# Altium footprint library Synthiam.PcbLib: 481 footprints (part 17 of 31)
Each footprint in its own frame and in the unit in brackets; x right, y up, seen from the top. Pads: shape width x height; smd on the part's side, far side on the other; paste and mask are expansions set on the pad; w line width, h text height; cw(c..) or ccw(c..) is an arc to the next point about the centre after c.
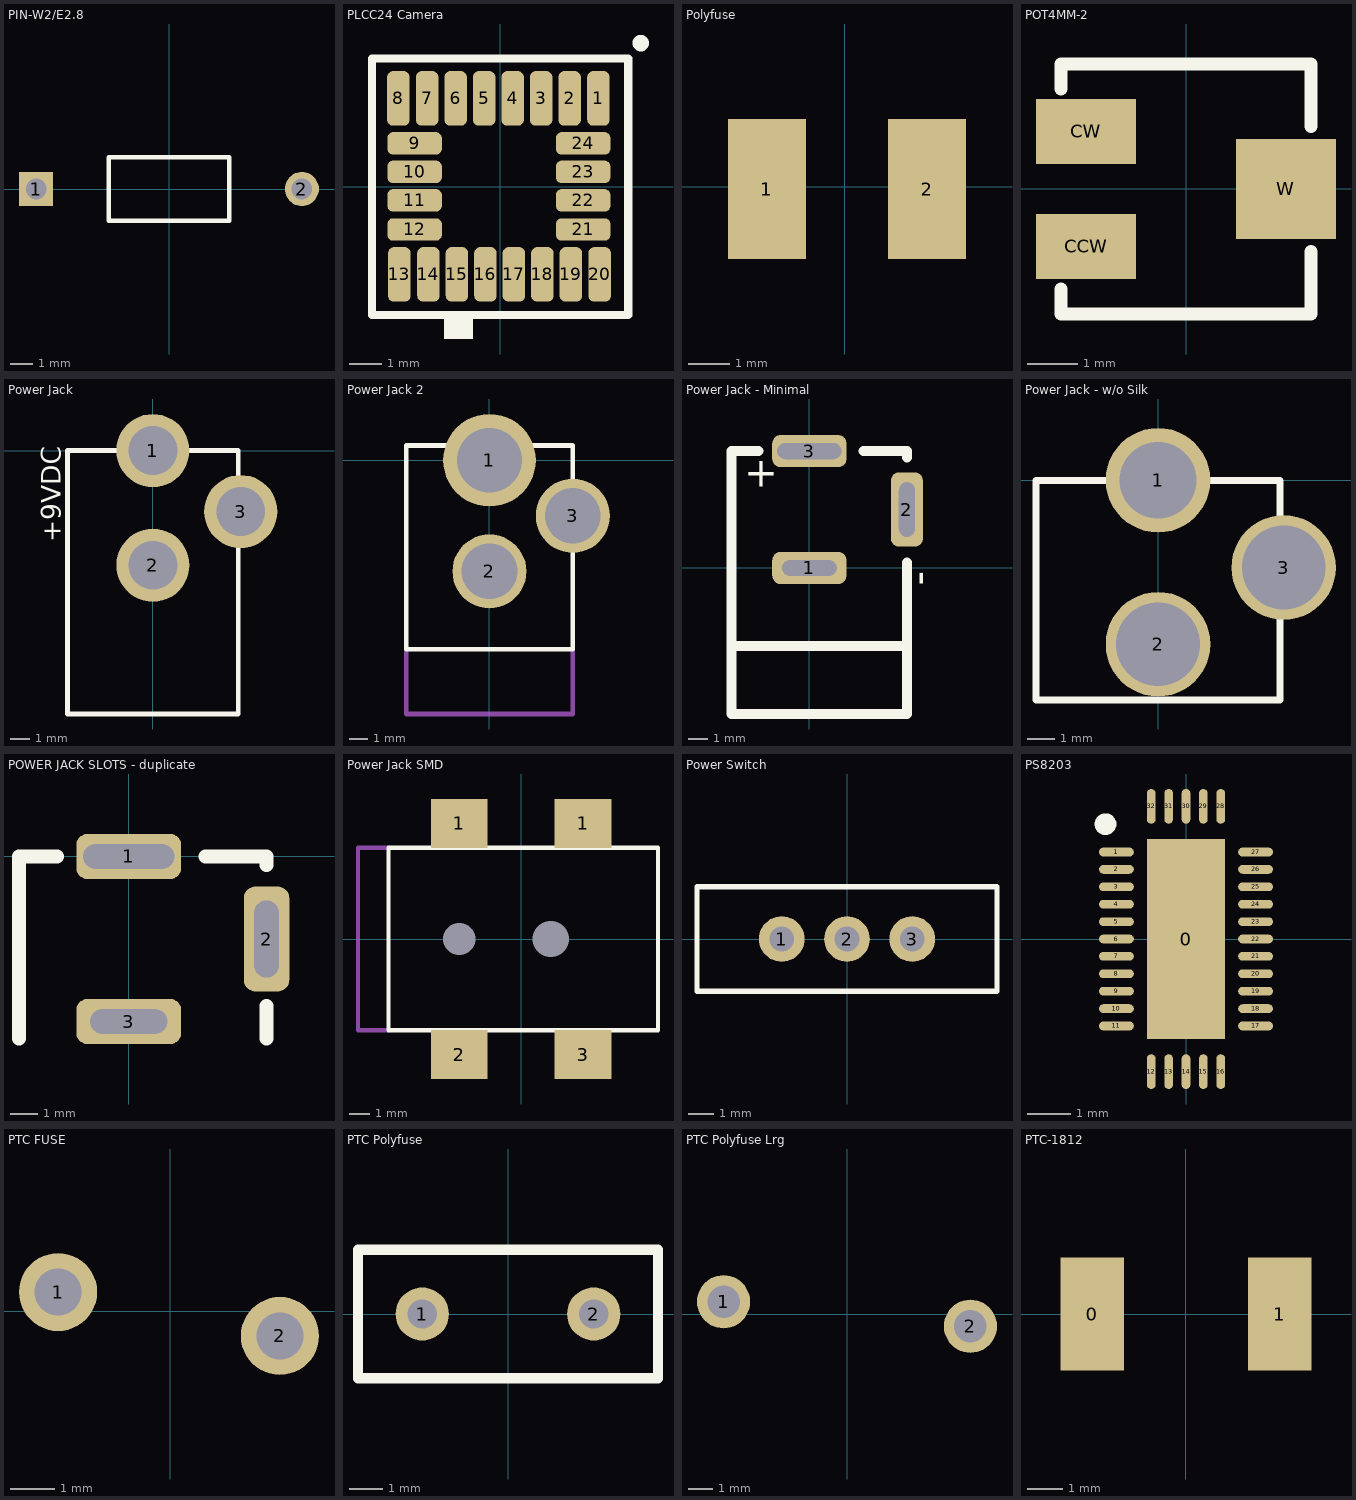
[diagram p16: the footprints below, top view; thin cyan lines are the x and y axes]

## PIN-W2/E2.8 [mm] "Thru-Hole; 2 Leads"
pads (2):
  rect 1.5x1.5 hole 0.9: 1(-5.825,0)
  round 1.5 hole 0.9: 2(5.825,0)
Top Overlay:
  lines w0.2: -2.65,-1.4 2.65,-1.4 2.65,1.4 -2.65,1.4 -2.65,-1.4

## PLCC24 Camera [mm]
pads (24):
  rrect50% 0.7x1.7 smd: 1(3.07,2.756) 2(2.171,2.756) 3(1.282,2.756) 4(0.393,2.756) 5(-0.496,2.756) 6(-1.385,2.756) 7(-2.274,2.756) 8(-3.173,2.756) 13(-3.143,-2.734) 14(-2.234,-2.734) 15(-1.345,-2.734) 16(-0.456,-2.734) 17(0.433,-2.734) 18(1.322,-2.734) 19(2.211,-2.734) 20(3.11,-2.734)
  rrect50% 1.7x0.7 smd: 9(-2.666,1.354) 10(-2.666,0.465) 11(-2.666,-0.424) 12(-2.666,-1.333) 21(2.594,-1.333) 22(2.594,-0.424) 23(2.594,0.465) 24(2.594,1.354)
Top Overlay:
  circle w0.254: c4.39,4.48 r0.13
  rectangle: -1.753,-4.75 -0.838,-3.988
  lines w0.254: -4,-4 -4,4 4,4 4,-4 -4,-4

## Polyfuse [mm] "500mA resetable Poly Fuse 4.65 X 3.26mm"
height 0.65
pads (2):
  rect 1.9x3.4 smd: 1(-1.901,-0.054) 2(1.999,-0.054)

## POT4MM-2 [mm] "Square Trimming Potentiometer"
pads (3):
  rect 2x1.3 smd: CCW(-2,-1.15) CW(-2,1.15)
  rect 2x2 smd: W(2,0)
Top Overlay:
  lines w0.254: -2.5,-2 -2.5,-2.5 2.5,-2.5 2.5,-1.25 ; -2.5,2 -2.5,2.5 2.5,2.5 2.5,1.25

## Power Jack [mil]
pads (3):
  round 150 hole 100: 1(0,0) 2(0,-235) 3(180,-125)
Top Overlay:
  lines w10: -175,-540 -175,0 175,0 175,-540 -175,-540
  text "+9VDC" at -189,-188 h40

## Power Jack 2 [mm]
pads (3):
  round 5 hole 3.5: 1(0,0)
  round 4 hole 3: 2(0,-6) 3(4.5,-3)
Top Overlay:
  lines w0.254: -4.5,-10.2 -4.5,0.8 4.5,0.8 4.5,-10.2 -4.479,-10.2
Mechanical 1:
  lines w0.254: -4.5,-10.2 -4.5,-13.7 4.5,-13.7 4.5,-10.2

## Power Jack - Minimal [mil] "2.1mm Barrel Jack"
pads (3):
  rrect50% 150x65 hole 32 slot 110 at 0 deg: 1(0,0)
  rrect50% 65x150 hole 32 slot 110 at 90 deg: 2(197,118)
  rrect50% 150x65 hole 32 slot 130 at 0 deg: 3(0,236)
Top Overlay:
  lines w20: -103,236 -157,236 -157,-158 ; 109.5,236 197,236 197,223.5 ; 196,-158 -157,-158 ; 197,11 197,-295 -157,-295 -157,-158
  text "+" at -132,164 h60
  text "-" at 249,-36 h60

## Power Jack - w/o Silk [mil]
pads (3):
  round 150 hole 110: 1(0,0)
  round 150 hole 120: 2(0,-235) 3(180,-125)
Top Overlay:
  lines w10: -175,-314.96 175,-314.96 175,0 -175,0 -175,-314.96

## POWER JACK SLOTS - duplicate [mil] "2.1mm slotted footprint"
pads (3):
  rrect50% 150x65 hole 35 slot 130 at 0 deg: 1(0,0)
  rrect50% 65x150 hole 35 slot 110 at 90 deg: 2(197,-118)
  rrect50% 150x65 hole 35 slot 110 at 0 deg: 3(0,-236)
Top Overlay:
  lines w20: -157,-260 -157,0 -103,0 ; 109.5,0 197,0 197,-12.5 ; 197,-260 197,-213.75

## Power Jack SMD [mm]
pads (6):
  round 0 hole 1.6: 0(-3.05,0)
  round 0 hole 1.8: 0(1.45,0)
  rect 2.8x2.4 smd: 1(-3.05,5.7) 1(3.05,5.7) 2(-3.05,-5.7) 3(3.05,-5.7)
Top Overlay:
  lines w0.203: -6.55,-4.5 6.75,-4.5 6.75,4.5 -6.55,4.5 -6.55,-4.5
Mechanical 1:
  lines w0.203: -6.55,-4.5 -8.05,-4.5 -8.05,4.5 -6.55,4.5

## Power Switch [mil]
pads (3):
  round 70 hole 38: 1(-100,0) 2(0,0) 3(100,0)
Top Overlay:
  lines w8: -230,-80 -230,80 230,80 230,-80 -230,-80

## PS8203 [mm]
pads (33):
  rect 1.8x4.6 smd: 0(0,0)
  oval 0.8x0.2 smd mask+0.1: 1(-1.6,2) 2(-1.6,1.6) 3(-1.6,1.2) 4(-1.6,0.8) 5(-1.6,0.4) 6(-1.6,0) 7(-1.6,-0.4) 8(-1.6,-0.8) 9(-1.6,-1.2) 10(-1.6,-1.6) 11(-1.6,-2) 17(1.6,-2) 18(1.6,-1.6) 19(1.6,-1.2) 20(1.6,-0.8) 21(1.6,-0.4) 22(1.6,0) 23(1.6,0.4) 24(1.6,0.8) 25(1.6,1.2) 26(1.6,1.6) 27(1.6,2)
  oval 0.2x0.8 smd mask+0.1: 12(-0.8,-3.05) 13(-0.4,-3.05) 14(0,-3.05) 15(0.4,-3.05) 16(0.8,-3.05) 28(0.8,3.05) 29(0.4,3.05) 30(0,3.05) 31(-0.4,3.05) 32(-0.8,3.05)
Top Overlay:
  circle w0.25: c-1.852,2.642 r0.125

## PTC FUSE [mil] "Thru Hole PTC footprint"
pads (2):
  round 70 hole 42: 1(-100.39,17.32) 2(98.43,-22.05)

## PTC Polyfuse [mil] "200mil pads, 900 tall x 600 wide"
pads (2):
  round 62 hole 34: 1(-100,0) 2(100,0)
Top Overlay:
  lines w12: -175,-75 -175,75 175,75 175,-75 -175,-75
3D body: height 900, standoff 300, extent -172.5,-65 177.5,60

## PTC Polyfuse Lrg [mil]
pads (2):
  round 85 hole 52: 1(-197.14,19.69) 2(197.14,-19.69)

## PTC-1812 [mm] "Littelfuse Polyfuse 1812 series"
pads (2):
  rect 1.78x3.15 smd: 0(-2.615,0) 1(2.615,0)
3D body: height 0.75, standoff 0.1, extent -3.515,-1.6 3.485,1.6